# Altium footprint library Hirose.PcbLib: 6 footprints
Each footprint in its own frame and in the unit in brackets; x right, y up, seen from the top. Pads: shape width x height; smd on the part's side, far side on the other; paste and mask are expansions set on the pad; w line width, h text height; cw(c..) or ccw(c..) is an arc to the next point about the centre after c.
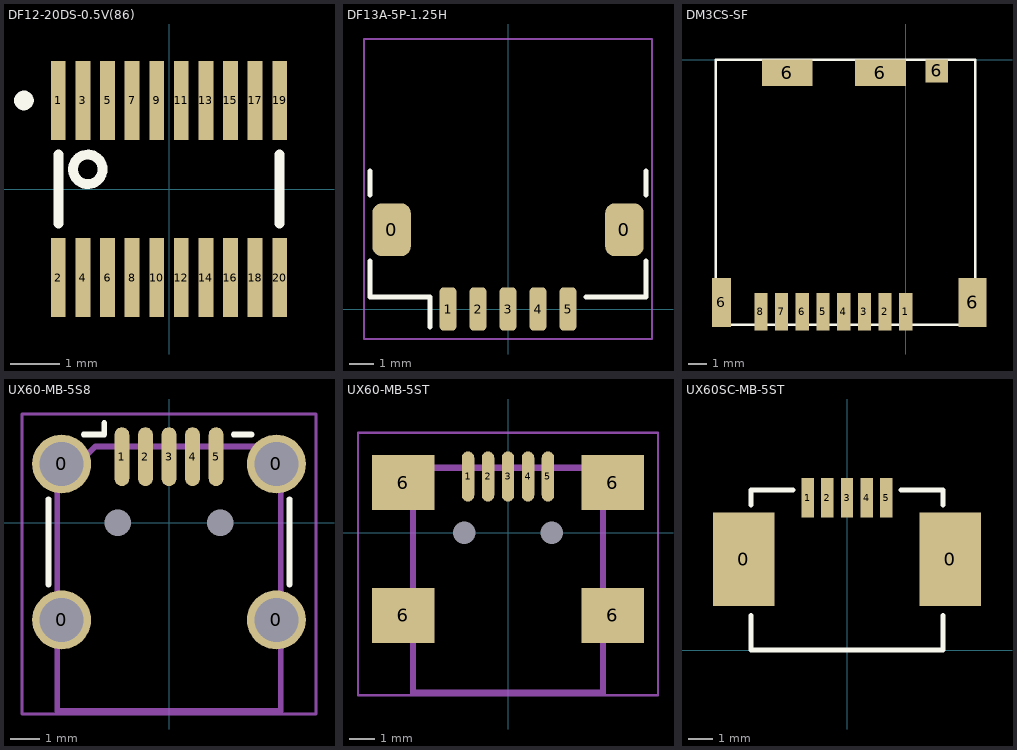
[diagram p0: the footprints below, top view; thin cyan lines are the x and y axes]

## DF12-20DS-0.5V(86) [mm]
height 2.7
pads (20):
  rect 0.3x1.6 smd: 1(-2.25,1.8) 2(-2.25,-1.8) 3(-1.75,1.8) 4(-1.75,-1.8) 5(-1.25,1.8) 6(-1.25,-1.8) 7(-0.75,1.8) 8(-0.75,-1.8) 9(-0.25,1.8) 10(-0.25,-1.8) 11(0.25,1.8) 12(0.25,-1.8) 13(0.75,1.8) 14(0.75,-1.8) 15(1.25,1.8) 16(1.25,-1.8) 17(1.75,1.8) 18(1.75,-1.8) 19(2.25,1.8) 20(2.25,-1.8)
Top Overlay:
  circle w0.2: c-2.95,1.8 r0.1
  circle w0.2: c-1.65,0.4 r0.3
  lines w0.2: -2.25,-0.7 -2.25,0.7 ; 2.25,-0.7 2.25,0.7
3D body: height 2.2, standoff 0, extent -2.8,-1.2 2.8,1.2
3D body: height 0.75, standoff 0, extent -3.6,-1.8 3.6,1.8

## DF13A-5P-1.25H [mm]
pads (7):
  rrect50% 1.6x2.2 smd: 0(-4.85,3.3) 0(4.85,3.3)
  rrect50% 0.7x1.8 smd: 1(-2.5,0) 2(-1.25,0) 3(0,0) 4(1.25,0) 5(2.5,0)
Top Overlay:
  lines w0.2: -5.75,2 -5.75,0.5 -3.25,0.5 -3.25,-0.75 ; -5.75,4.75 -5.75,5.75 ; 3.25,0.5 5.75,0.5 5.75,2 ; 5.75,4.75 5.75,5.75
Courtyard:
  lines w0.1: -6,-1.25 6,-1.25 6,11.25 -6,11.25 -6,-1.25
3D body: height 3.6, standoff 0, extent -5.5,0.75 5.5,5.75

## DM3CS-SF [mm] "Micro-SD connector, hinged"
height 1.85
pads (13):
  rect 0.7x2 smd: 1(0,-13.4) 2(-1.1,-13.4) 3(-2.2,-13.4) 4(-3.3,-13.4) 5(-4.4,-13.4) 6(-5.5,-13.4) 7(-6.6,-13.4) 8(-7.7,-13.4)
  rect 1x2.6 smd: 6(-9.8,-12.9)
  rect 2.7x1.4 smd: 6(-6.3,-0.7) 6(-1.35,-0.7)
  rect 1.2x1.2 smd: 6(1.65,-0.6)
  rect 1.5x2.6 smd: 6(3.55,-12.9)
Top Overlay:
  lines w0.127: -10.1,-14.1 -10.1,0 3.7,0 3.7,-14.1 -10.1,-14.1
3D body: height 1.85, standoff 0, extent -10.1,-14.1 3.7,0

## UX60-MB-5S8 [mm]
pads (11):
  round 2 hole 1.5 mask+0.051: 0(-3.65,-3.3) 0(-3.65,2) 0(3.65,-3.3) 0(3.65,2)
  round 0 hole 0.9 unplated: 0(-1.75,0) 0(1.75,0)
  oval 0.5x2 smd mask+0.051: 1(-1.6,2.25) 2(-0.8,2.25) 3(0,2.25) 4(0.8,2.25) 5(1.6,2.25)
Top Overlay:
  lines w0.2: -4.1,-2.1 -4.1,0.8 ; -2.9,3 -2.2,3 -2.2,3.4 ; 2.2,3 2.8,3 ; 4.1,-2.1 4.1,0.8
Assembly:
  lines w0.2: -3.8,-6.4 -3.8,1.3 -2.5,2.6 3.8,2.6 3.8,-6.4 -3.8,-6.4
Courtyard:
  lines w0.1: -5,-6.5 -5,3.7 5,3.7 5,-6.5 -5,-6.5
3D body: height 3.95, standoff -0.8, extent -3.85,-6.4 3.85,2.6

## UX60-MB-5ST [mm] "USB Mini-AB Receptacle"
height 4
pads (11):
  round 0 hole 0.9 unplated: 0(-1.75,0) 0(1.75,0)
  oval 0.5x2 smd mask+0.051: 1(-1.6,2.25) 2(-0.8,2.25) 3(0,2.25) 4(0.8,2.25) 5(1.6,2.25)
  rect 2.5x2.2 smd: 6(-4.2,-3.3) 6(-4.2,2) 6(4.2,-3.3) 6(4.2,2)
Assembly:
  lines w0.254: -3.8,-6.4 -3.8,2.6 3.8,2.6 3.8,-6.4 -3.8,-6.4
Courtyard:
  lines w0.1: -6,-6.5 6,-6.5 6,4 -6,4 -6,-6.5
3D body: height 3.95, standoff -0.5, extent -5.05,-6.4 5.05,2.6

## UX60SC-MB-5ST [mm] "USB Mini-B receptacle"
height 3.95
pads (7):
  rect 2.5x3.8 smd: 0(-4.2,3.7) 0(4.2,3.7)
  rect 0.5x1.6 smd: 1(-1.6,6.2) 2(-0.8,6.2) 3(0,6.2) 4(0.8,6.2) 5(1.6,6.2)
Top Overlay:
  lines w0.203: -3.9,1.4 -3.9,0 3.9,0 3.9,1.4 ; -3.9,5.9 -3.9,6.5 -2.2,6.5 ; 2.2,6.5 3.9,6.5 3.9,5.9
3D body: height 3.95, standoff 0, extent -3.9,0 3.9,6.5